# Altium schematic symbol library SolderingController.SchLib: 5 symbols
Pins are listed as number, name and electrical type; pins without a type are passive.

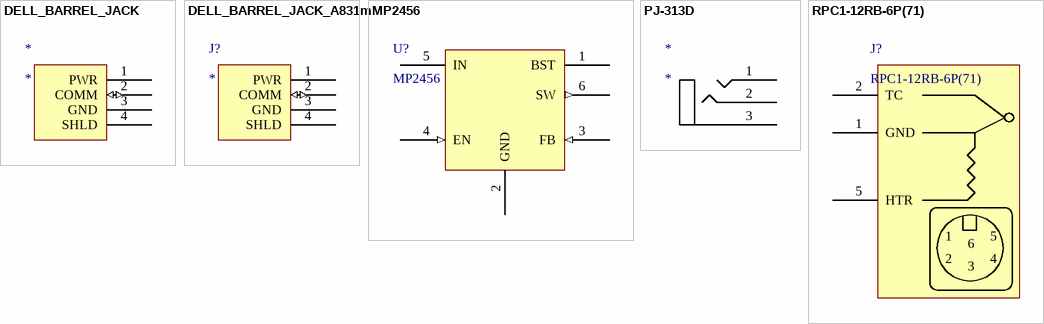
[diagram p0: symbols DELL_BARREL_JACK to RPC1-12RB-6P(71)]

## DELL_BARREL_JACK
designator *
footprint DELL_POWER_JACK (Dell power jack)
pins: 1 PWR (power), 2 COMM (io) "One Wire Comm.", 3 GND (power), 4 SHLD (power)

## DELL_BARREL_JACK_A831m
designator J?
footprint DELL_POWER_JACK_A831m
pins: 1 PWR (power), 2 COMM (io) "One Wire Comm.", 3 GND (power), 4 SHLD (power)

## MP2456
designator U?
0.5A, 50V, 1.2MHz   Step-Down Converter  TSOT23-6
footprint MP2456 (TSOT23-6)
pins: 1 BST, 2 GND (power), 3 FB (in), 4 EN (in), 5 IN (power), 6 SW (out)

## PJ-313D
designator *
footprint PJ-313D (Audio Jack)
pins: 1, 2, 3

## RPC1-12RB-6P(71)
designator J?
Hirose  CONN RECEPT 6 POS W/PINS
footprint Hirose-RPC1
pins: 1 GND, 2 TC, 5 HTR
text: 6; 4; 3